# Altium schematic symbol library Schlib1.SchLib: 2 symbols
Pins are listed as number, name and electrical type; pins without a type are passive.

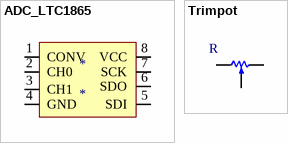
[diagram p0: symbols ADC_LTC1865 to Trimpot]

## ADC_LTC1865
designator *
footprint LTC1865_SOIC8 (SOIC, 8-Leads, Body 4.90x3.90mm, Pitch 1.27mm, IPC Medium Density)
pins: 1 CONV, 2 CH0, 3 CH1, 4 GND, 5 SDI, 6 SDO, 7 SCK, 8 VCC

## Trimpot
designator R
footprint Trimpot_Cut_tape_3.4x3.4x2
pins: 1, 2, 3